# Altium footprint library LED-RGB-2x5x5.PcbLib: 1 footprints
Each footprint in its own frame and in the unit in brackets; x right, y up, seen from the top. Pads: shape width x height; smd on the part's side, far side on the other; paste and mask are expansions set on the pad; w line width, h text height; cw(c..) or ccw(c..) is an arc to the next point about the centre after c.
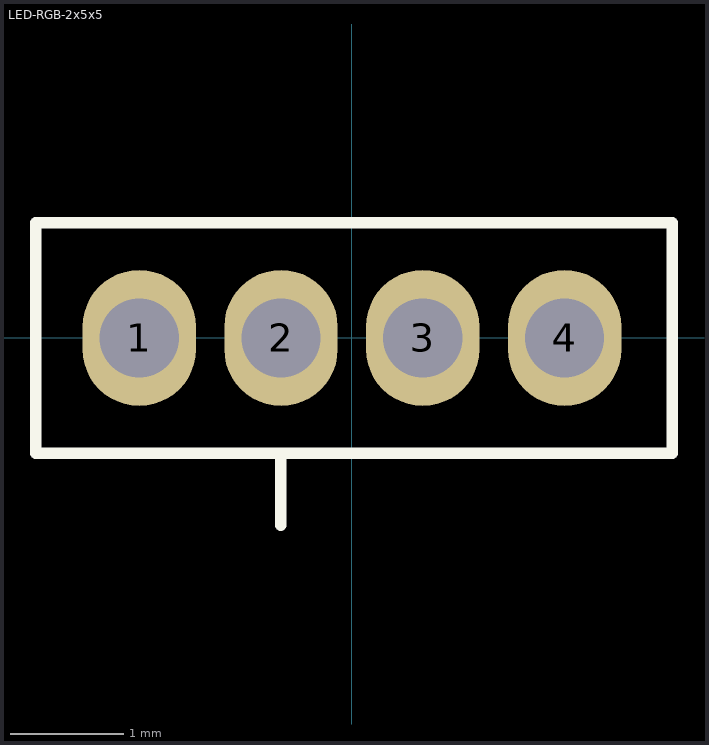
[diagram p0: the footprint, top view; thin cyan lines are the x and y axes]

## LED-RGB-2x5x5 [mm]
pads (4):
  oval 1x1.2 hole 0.7: 1(-1.875,0) 2(-0.625,0) 3(0.625,0) 4(1.875,0)
Top Overlay:
  lines w0.102: -0.628,-1.651 -0.628,-1.016 ; -2.787,-1.016 -2.787,1.016 2.824,1.016 2.824,-1.016 -2.787,-1.016
3D body: height 6.5, standoff -3.01, extent -2.54,-1.27 2.54,1.27